# EAGLE library part TLV4379 (library opamp)
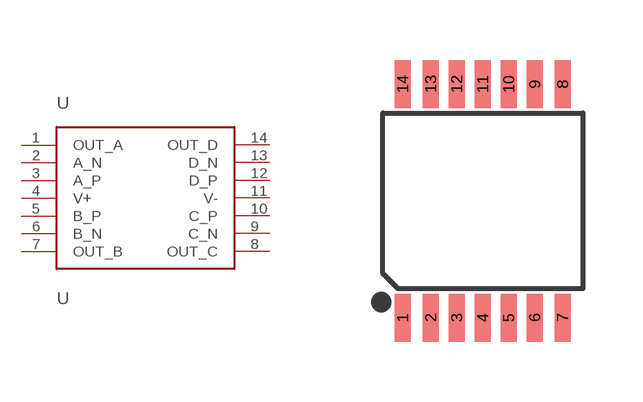
[diagram p0: symbol with the pads of TSSOP14-0.65-5X4.4MM; footprint TSSOP14-0.65-5X4.4MM]

Designator prefix U

## TLV4379  [TSSOP14-0.65-5X4.4MM]
1  OUT_A  out
2  A_N  in
3  A_P  in
4  V+  pwr
5  B_P  in
6  B_N  in
7  OUT_B  out
8  OUT_C  out
9  C_N  in
10  C_P
11  V-  pwr
12  D_P  in
13  D_N
14  OUT_D

## Footprint TSSOP14-0.65-5X4.4MM (pad centres in mm)
smd 0.4 x 1.2: 1 -2,-2.925; 2 -1.3,-2.925; 3 -0.65,-2.925; 4 0,-2.925; 5 0.65,-2.925; 6 1.3,-2.925; 7 2,-2.925; 8 2,2.925; 9 1.3,2.925; 10 0.65,2.925; 11 0,2.925; 12 -0.65,2.925; 13 -1.3,2.925; 14 -2,2.925